# Altium footprint library 常用封装2.PcbLib: 108 footprints (part 6 of 7)
Each footprint in its own frame and in the unit in brackets; x right, y up, seen from the top. Pads: shape width x height; smd on the part's side, far side on the other; paste and mask are expansions set on the pad; w line width, h text height; cw(c..) or ccw(c..) is an arc to the next point about the centre after c.
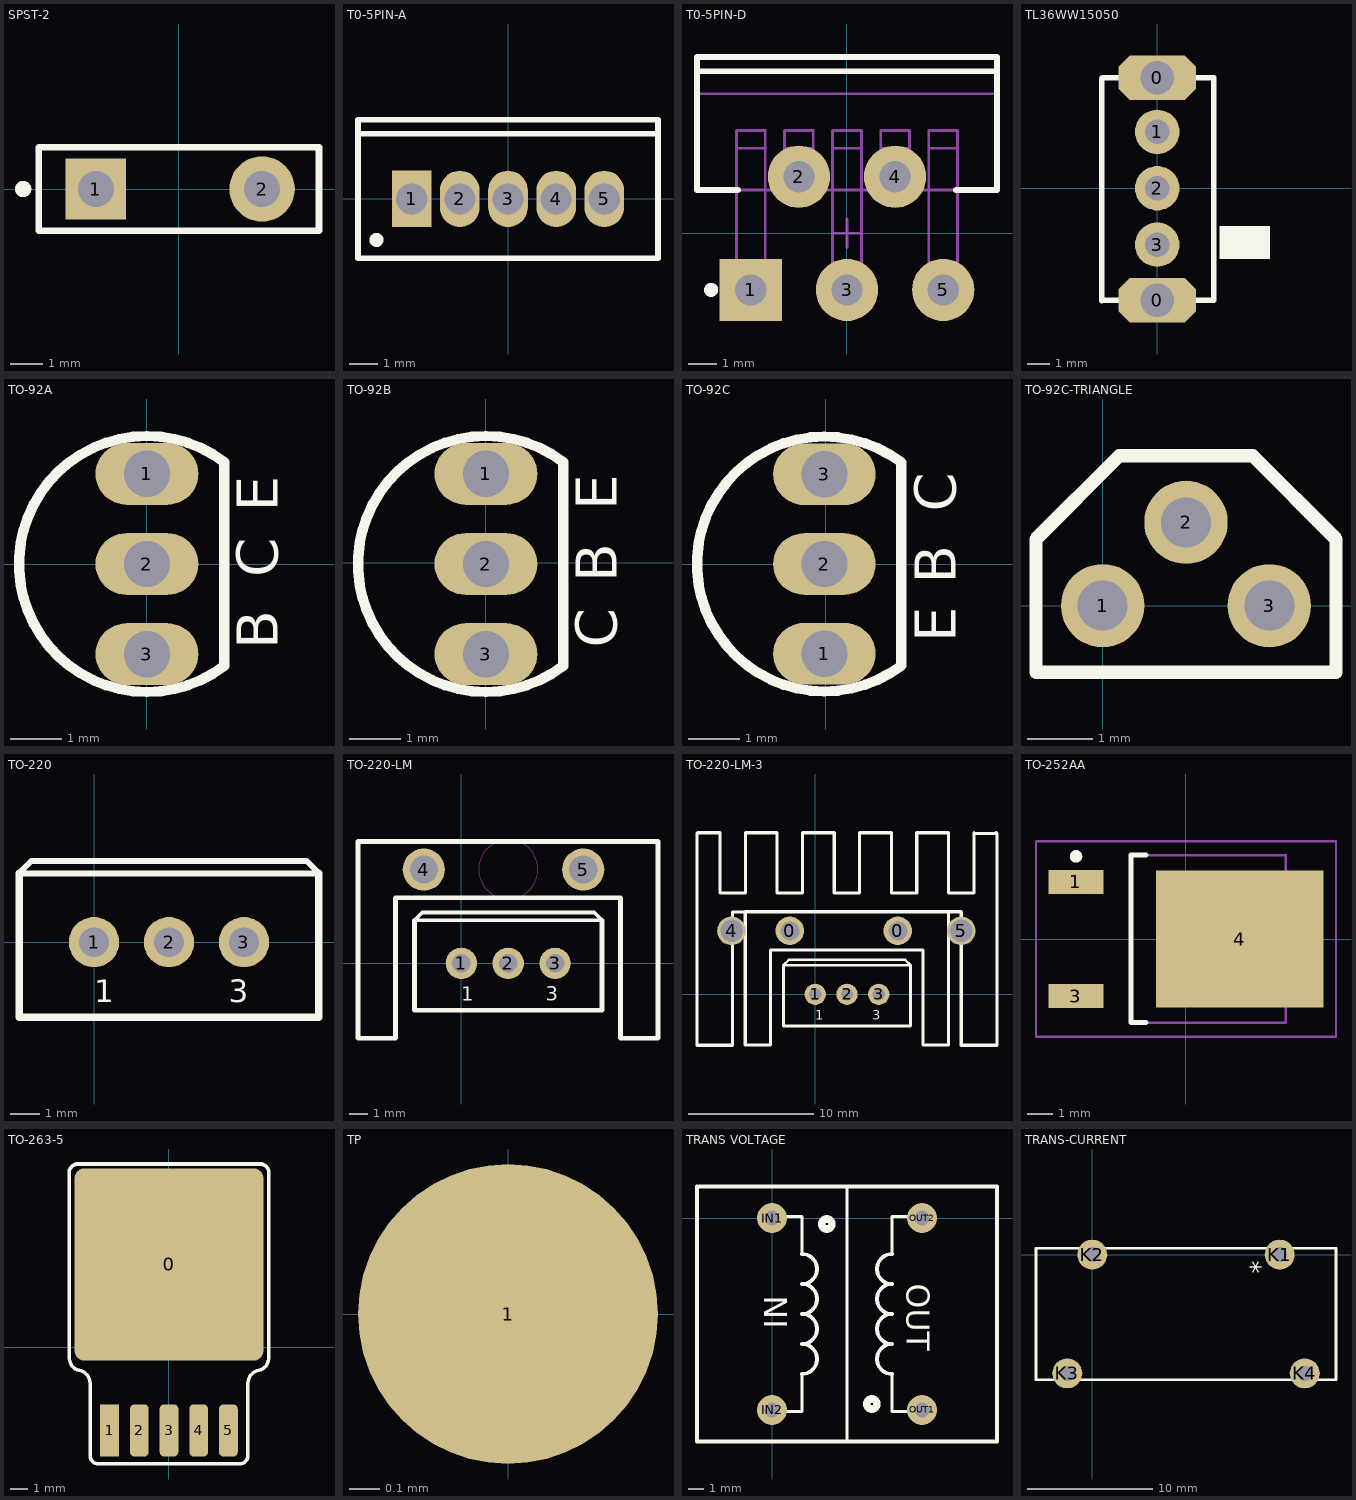
[diagram p5: the footprints below, top view; thin cyan lines are the x and y axes]

## SPST-2 [mm] "Circuit Breaker; 2 Leads"
pads (2):
  rect 1.85x1.85 hole 1.1: 1(-2.54,0)
  round 2 hole 1.1: 2(2.54,0)
Top Overlay:
  circle w0.25: c-4.761,-0.001 r0.125
  lines w0.2: -4.28,-1.27 -4.28,1.27 4.28,1.27 4.28,-1.27 -4.28,-1.27

## T0-5PIN-A [mm] "TO, Thru-Hole, Vertical, Heatsink Mounted; 5 In-Line Leads; Pitch 1.70 mm"
height 19.6
pads (5):
  rect 1.4x2 hole 1.1: 1(-3.4,0)
  oval 1.4x2 hole 1.1: 2(-1.7,0) 3(0,0) 4(1.7,0) 5(3.4,0)
Top Overlay:
  circle w0.25: c-4.65,-1.45 r0.125
  lines w0.2: -5.3,2.3 5.3,2.3 ; -5.3,-2.1 5.3,-2.1 5.3,2.8 -5.3,2.8 -5.3,-2.1
Mechanical 13:
  lines w0.1: -5.3,2.3 5.3,2.3 ; -5.3,-2.1 -5.3,2.8 5.3,2.8 5.3,-2.1 -5.3,-2.1 ; -3.91,-0.28 -3.91,0.28 -2.89,0.28 -2.89,-0.28 -3.91,-0.28 ; -2.21,-0.28 -2.21,0.28 -1.19,0.28 -1.19,-0.28 -2.21,-0.28 ; -0.51,-0.28 -0.51,0.28 0.51,0.28 0.51,-0.28 -0.51,-0.28 ; 1.19,-0.28 1.19,0.28 2.21,0.28 2.21,-0.28 1.19,-0.28 ; 2.89,-0.28 2.89,0.28 3.91,0.28 3.91,-0.28 2.89,-0.28
Mechanical 15:
  lines w0.1: -0.5,0 0.5,0 ; 0,-0.5 0,0.5
3D body: height 4.1, standoff 0, extent -0.509,-0.279 0.509,0.279
3D body: height 4.1, standoff 0, extent 2.891,-0.279 3.909,0.279
3D body: height 4.1, standoff 0, extent 1.191,-0.279 2.209,0.279
3D body: height 4.1, standoff 0, extent -2.209,-0.279 -1.191,0.279
3D body: height 4.1, standoff 0, extent -3.909,-0.279 -2.891,0.279
3D body: height 13, standoff 4.1, extent -5.35,-2.15 5.35,2.85
3D body: height 19.6, standoff 13, extent -5.299,2.301 5.299,2.799

## T0-5PIN-D [mm] "TO, Thru-Hole, Vertical, Heatsink Mounted; 5 Bent Staggered Leads; Pitch 1.7 mm"
height 21.1
pads (5):
  rect 2.2x2.2 hole 1.1: 1(-3.4,-2)
  round 2.2 hole 1.1: 2(-1.7,2) 3(0,-2) 4(1.7,2) 5(3.4,-2)
Top Overlay:
  circle w0.25: c-4.8,-2 r0.125
  lines w0.2: -5.3,5.73 5.3,5.73 ; -3.854,1.53 -5.3,1.53 -5.3,6.23 5.3,6.23 5.3,1.53 3.854,1.53
Mechanical 13:
  lines w0.1: -5.3,4.93 5.3,4.93 ; -3.91,-1.685 -3.91,3.005 ; -3.91,-1.685 -2.89,-1.685 ; -3.91,-1.685 -3.91,-2.315 -2.89,-2.315 -2.89,-1.685 ; -3.91,3.005 -3.91,3.635 -2.89,3.635 -2.89,3.005 ; -3.91,3.005 -2.89,3.005 ; -2.89,-1.685 -2.89,3.005 ; -2.21,2.315 -2.21,3.005 ; -2.21,2.315 -1.19,2.315 ; -2.21,2.315 -2.21,1.685 -1.19,1.685 -1.19,2.315 ; -2.21,3.005 -2.21,3.635 -1.19,3.635 -1.19,3.005 ; -2.21,3.005 -1.19,3.005 ; -1.19,2.315 -1.19,3.005 ; -0.51,-1.685 -0.51,-2.315 0.51,-2.315 0.51,-1.685 ; -0.51,-1.685 0.51,-1.685 ; -0.51,-1.685 -0.51,3.005 ; -0.51,3.005 0.51,3.005 ; -0.51,3.005 -0.51,3.635 0.51,3.635 0.51,3.005 ; 0.51,-1.685 0.51,3.005 ; 1.19,2.315 1.19,3.005 ; 1.19,2.315 2.21,2.315 ; 1.19,2.315 1.19,1.685 2.21,1.685 2.21,2.315 ; 1.19,3.005 1.19,3.635 2.21,3.635 2.21,3.005 ; 1.19,3.005 2.21,3.005 ; 2.21,2.315 2.21,3.005 ; 2.89,-1.685 3.91,-1.685 ; 2.89,-1.685 2.89,-2.315 3.91,-2.315 3.91,-1.685 ; 2.89,-1.685 2.89,3.005 ; 2.89,3.005 2.89,3.635 3.91,3.635 3.91,3.005 ; 2.89,3.005 3.91,3.005 ; 3.91,-1.685 3.91,3.005 ; -5.3,1.53 5.3,1.53 5.3,6.23 -5.3,6.23 -5.3,1.53
Mechanical 15:
  lines w0.1: -0.5,0 0.5,0 ; 0,-0.5 0,0.5
3D body: height 21.1, standoff 14.5, extent -5.299,4.931 5.299,6.229
3D body: height 14.5, standoff 5.6, extent -5.35,1.48 5.35,6.28
3D body: height 5.6, standoff 1.95, extent -2.209,3.006 -1.191,3.634
3D body: height 5.6, standoff 1.95, extent -0.509,3.006 0.509,3.634
3D body: height 5.6, standoff 1.95, extent 1.191,3.006 2.209,3.634
3D body: height 5.6, standoff 1.95, extent 2.891,3.006 3.909,3.634
3D body: height 0.93, standoff 0, extent 1.191,1.686 2.209,2.314
3D body: height 0.93, standoff 0, extent -2.209,1.686 -1.191,2.314
3D body: height 2.26, standoff 0.63, extent -2.209,2.316 -1.191,3.004
3D body: height 2.26, standoff 0.63, extent 1.191,2.316 2.209,3.004
3D body: height 2.26, standoff 1.42, extent 2.891,1.531 3.909,3.004
3D body: height 2.26, standoff 1.42, extent -3.909,1.531 -2.891,3.004
3D body: height 2.26, standoff 1.42, extent -0.509,1.531 0.509,3.004
3D body: height 0.93, standoff 0, extent -3.909,-2.314 -2.891,-1.686
3D body: height 0.93, standoff 0, extent -0.509,-2.314 0.509,-1.686
3D body: height 0.93, standoff 0, extent 2.891,-2.314 3.909,-1.686
3D body: height 1.72, standoff 0.63, extent -3.909,-1.684 -2.891,1.529
3D body: height 1.72, standoff 0.63, extent -0.509,-1.684 0.509,1.529
3D body: height 1.72, standoff 0.63, extent 2.891,-1.684 3.909,1.529
3D body: height 5.6, standoff 1.95, extent -3.909,3.006 -2.891,3.634

## TL36WW15050 [mm]
pads (5):
  oct 3.5x2 hole 1.5: 0(0,-5.034) 0(0,4.966)
  round 2 hole 1.1: 1(0,2.54) 2(0,0) 3(0,-2.54)
Top Overlay:
  rectangle: 2.794,-3.175 5.08,-1.702
  lines w0.254: -2.495,-5.059 -2.495,4.941 ; -2.465,-5.034 2.535,-5.034 2.535,4.966 -2.465,4.966

## TO-92A [mm]
height 5
pads (3):
  oval 2x1.2 hole 0.9: 1(0,1.75) 2(0,0) 3(0,-1.75)
Top Overlay:
  lines w0.2: 1.5,-1.98 cw(c0,0) 1.5,1.98 1.5,-1.98
  text "E" at 2.54,1.016 h0.8
  text "C" at 2.54,-0.254 h0.8
  text "B" at 2.54,-1.651 h0.8
3D body: height 7, standoff 3, extent -2.497,-2.497 1.501,2.497
3D body: height 3, standoff -2, extent -0.421,-0.41 0.401,0.412
3D body: height 3, standoff -2, extent -0.409,-2.149 0.413,-1.327
3D body: height 3, standoff -2, extent -0.409,1.356 0.413,2.178

## TO-92B [mm]
height 5
pads (3):
  oval 2x1.2 hole 0.9: 1(0,1.725) 2(0,-0.025) 3(0,-1.775)
Top Overlay:
  lines w0.2: 1.5,-2.005 cw(c0,-0.025) 1.5,1.955 1.5,-2.005
  text "E" at 2.54,1.016 h0.8
  text "C" at 2.54,-1.651 h0.8
  text "B" at 2.54,-0.381 h0.8
3D body: height 7, standoff 3, extent -2.497,-2.522 1.501,2.471
3D body: height 3, standoff -2, extent -0.421,-0.435 0.401,0.387
3D body: height 3, standoff -2, extent -0.409,-2.175 0.413,-1.353
3D body: height 3, standoff -2, extent -0.409,1.331 0.413,2.153

## TO-92C [mm]
height 5
pads (3):
  oval 2x1.2 hole 0.9: 1(-0.025,-1.75) 2(-0.025,0) 3(-0.025,1.75)
Top Overlay:
  lines w0.2: 1.475,-1.98 cw(c-0.025,0) 1.475,1.98 1.475,-1.98
  text "E" at 2.54,-1.524 h0.8
  text "C" at 2.54,1.016 h0.8
  text "B" at 2.54,-0.381 h0.8
3D body: height 3, standoff -2, extent -0.434,1.356 0.388,2.178
3D body: height 3, standoff -2, extent -0.434,-2.149 0.388,-1.327
3D body: height 3, standoff -2, extent -0.447,-0.41 0.375,0.412
3D body: height 7, standoff 3, extent -2.522,-2.497 1.476,2.497

## TO-92C-TRIANGLE [mil] "作者：王千会"
pads (3):
  round 50 hole 30: 1(0,0) 2(50,50) 3(100,0)
Top Overlay:
  lines w8: -40,-40 -40,40 10,90 90,90 140,40 140,-40 -40,-40
3D body: height 314.96, standoff -119.01, extent -44.49,-59.88 144.49,94.84

## TO-220 [mm]
pads (3):
  round 1.7 hole 1: 1(0,0) 2(2.54,0) 3(5.08,0)
Top Overlay:
  lines w0.2: -2.54,2.328 -2.117,2.752 7.197,2.752 7.62,2.328 -2.54,2.328
  lines w0.254: -2.54,2.328 -2.54,-2.529 -2.529,-2.54 7.609,-2.54 7.62,-2.529 7.62,2.328
  text "1" at 0,-2.032 h0.76
  text "3" at 4.572,-2.032 h0.76
3D body: height 18.8, standoff -9.98, extent -2.385,-2.108 7.515,2.392

## TO-220-LM [mm]
pads (5):
  round 1.7 hole 1: 1(0,0) 2(2.54,0) 3(5.08,0)
  round 2.286 hole 1.524: 4(-2.032,5.08) 5(6.604,5.08)
Top Overlay:
  lines w0.2: -2.54,2.328 7.62,2.328 7.197,2.752 -2.117,2.752 -2.54,2.328
  lines w0.254: -2.54,2.328 -2.54,-2.529 -2.529,-2.54 7.609,-2.54 7.62,-2.529 7.62,2.328 ; 10.657,3.556 10.657,6.604 ; 10.657,6.604 10.657,-4.064 8.625,-4.064 8.625,3.556 -3.567,3.556 -3.567,-4.064 -5.599,-4.064 -5.599,1.016 -5.599,3.556 -5.599,6.604 10.657,6.604
  text "3" at 4.572,-2.032 h0.76
  text "1" at 0,-2.032 h0.76
Keep-Out Layer:
  circle w0.025: c2.545,5.094 r1.606
3D body: height 21.07, standoff -4.86, extent -5.96,-5.775 11.04,4.445

## TO-220-LM-3 [mil]
height 1181.1
pads (7):
  round 90 hole 60: 0(-80,200) 0(260,200)
  round 66.93 hole 39.37: 1(0,0) 2(100,0) 3(200,0)
  round 90 hole 70.87: 4(-263.72,199.65) 5(459.82,199.65)
Top Overlay:
  lines w7.87: -100,91.67 -83.33,108.33 283.33,108.33 300,91.67 -100,91.67
  lines w10: -372.44,379.39 -372.44,507.14 ; -372.44,391.91 -372.44,507.14 ; -100,91.67 -100,-99.56 -99.56,-100 299.56,-100 300,-99.56 300,91.67 ; 419.56,140 419.56,260 ; 459.82,119.65 459.82,199.65 ; 570.28,508.93 572.44,506.77 ; 572.44,387.75 572.44,506.77 ; -372.44,507.14 -372.44,-160.61 -260.18,-160.61 -260.18,259.65 -220.78,259.65 -220.44,260 ; -372.44,507.14 -370.65,508.93 -300.18,508.93 -300.18,319.39 -220.18,319.39 -220.18,508.93 -120.18,508.93 -120.18,319.39 -40.18,319.39 -40.18,508.93 59.82,508.93 59.82,319.39 139.82,319.39 139.82,508.93 239.82,508.93 239.82,319.39 319.82,319.39 319.82,508.93 399.82,508.93 419.82,508.93 419.82,319.39 499.82,319.39 499.82,508.93 501.97,506.77 572.44,506.77 ; -220.44,260 419.56,260 ; -220.44,260 -220.44,140 -220.44,40 -220.44,-160 -140.44,-160 -140.44,140 339.56,140 339.56,-160 419.56,-160 419.56,260 ; 419.56,260 459.47,260 459.82,259.65 459.82,-160.61 572.44,-160.61 572.44,506.77
  text "1" at 0,-80 h30
  text "3" at 180,-80 h30

## TO-252AA [mm] "D-PAK, 4-Leads, Body 6.1x6.5mm, Pitch 2.28mm, Lead Span 9.8mm, IPC Low Density"
height 2.38
pads (3):
  rect 2.2x0.95 smd: 1(-4.4,2.28) 3(-4.4,-2.28)
  rect 6.7x5.5 smd: 4(2.15,0)
Top Overlay:
  circle w0.25: c-4.4,3.305 r0.125
  lines w0.2: -1.6,-3.35 -2.2,-3.35 -2.2,3.35 -1.6,3.35
Mechanical 13:
  lines w0.1: -2.2,-3.35 4,-3.35 4,3.35 -2.2,3.35 -2.2,-3.35
Mechanical 15:
  lines w0.1: -0.5,0 0.5,0 ; 0,-0.5 0,0.5 ; -6,-3.9 6,-3.9 6,3.9 -6,3.9 -6,-3.9
3D body: height 2.39, standoff -0.02, extent -4.9,-3.27 5.038,3.27

## TO-263-5 [mm]
pads (6):
  rrect10% 10.8x11 smd: 0(0,4.75)
  rect 1.07x3 smd: 1(-3.4,-4.75)
  rrect50% 1.07x3 smd: 2(-1.7,-4.75) 3(0,-4.75) 4(1.7,-4.75) 5(3.4,-4.75)
Top Overlay:
  lines w0.2: -4.512,-6.122 ccw(c-4.028,-6.181) -4.125,-6.659 ; 4.125,-6.659 ccw(c4.028,-6.181) 4.512,-6.122
  lines w0.203: -5.7,10.05 -5.7,-0.53 ccw(c-5.005,-0.615) -5.145,-1.301 cw(c-5.306,-2.084) -4.512,-2.181 -4.512,-6.122 ; -5.7,10.109 cw(c-5.222,10.011) -5.299,10.493 ; -5.3,10.5 5.3,10.5 ; -4.125,-6.659 4.125,-6.659 ; 4.512,-6.122 4.512,-2.181 cw(c5.306,-2.084) 5.145,-1.301 ccw(c5.005,-0.615) 5.7,-0.53 5.7,10.05 ; 5.299,10.493 cw(c5.222,10.011) 5.7,10.109
3D body: height 4.48, standoff 0, extent -5.137,-4.801 5.086,9.55

## TP [mm]
pads (1):
  round 1 smd: 1(0,0)

## TRANS VOLTAGE [mm]
height 10
pads (4):
  round 2 hole 1: IN1(0,0) IN2(0,-12.8) OUT1(10,-12.8) OUT2(10,0)
Top Overlay:
  circle w0.5: c3.659,-0.4 r0.341
  circle w0.5: c6.659,-12.4 r0.341
  lines w0.203: 0,-12.9 2,-12.9 2,-10.4 ; 0,0.1 2,0.1 2,-2.4 ; 5,-14.9 5,2.1 ; 8,-10.4 8,-12.9 10,-12.9 ; 8,-2.4 8,0.1 10,0.1
  lines w0.254: 2,-10.4 ccw(c2,-9.4) 2,-8.4 ccw(c2,-7.4) 2,-6.4 ccw(c2,-5.4) 2,-4.4 ccw(c2,-3.4) 2,-2.4 ; 8,-10.4 cw(c8,-9.4) 8,-8.4 cw(c8,-7.4) 8,-6.4 cw(c8,-5.4) 8,-4.4 cw(c8,-3.4) 8,-2.4 ; -5,-14.9 15,-14.9 15,2.1 -5,2.1 -5,-14.9
  text "OUT" at 9,-4.4 h1.52
  text "IN" at 1,-7.4 h1.52
3D body: height 4, standoff -2, extent -0.429,-13.229 0.379,-12.421
3D body: height 4, standoff -2, extent 9.571,-13.229 10.379,-12.421
3D body: height 4, standoff -2, extent 9.571,-0.429 10.379,0.379
3D body: height 4, standoff -2, extent -0.429,-0.429 0.379,0.379
3D body: height 18.5, standoff 0.5, extent -5.127,-15.027 15.127,2.227

## TRANS-CURRENT [mm]
pads (4):
  round 2.4 hole 1.2: K1(15,0) K2(0,0) K3(-2,-9.5) K4(17,-9.5)
Top Overlay:
  lines w0.203: -4.5,-10 19.5,-10 19.5,0.5 -4.5,0.5 -4.5,-10
  text "*" at 12,-0.5 h1.52
3D body: height 4, standoff -2, extent 16.571,-9.929 17.379,-9.121
3D body: height 4, standoff -2, extent -2.429,-9.929 -1.621,-9.121
3D body: height 4, standoff -2, extent 14.571,-0.429 15.379,0.379
3D body: height 4, standoff -2, extent -0.429,-0.429 0.379,0.379
3D body: height 25.5, standoff 0.5, extent -4.602,-10.102 19.602,0.602